# Altium schematic symbol library stm32f103c8t6_module.SCHLIB: 1 symbol
Pins are listed as number, name and electrical type; pins without a type are passive.

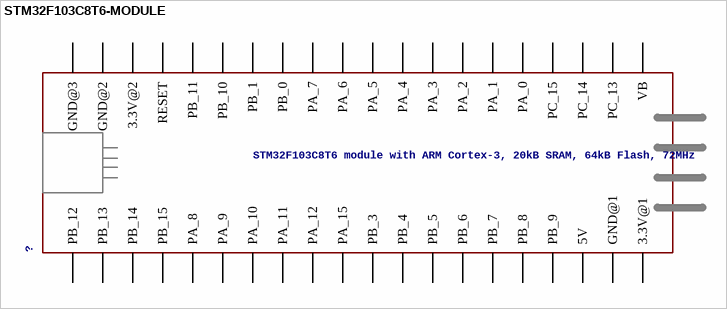
[diagram p0: symbol STM32F103C8T6-MODULE]

## STM32F103C8T6-MODULE
designator ?, comment STM32F103C8T6 module with ARM Cortex-3, 20kB SRAM, 64kB Flash, 72MHz
GateName_1: G$1; SymbolName_1: STM32F103C8T6-MODULE; LibraryName: stm32f103c8t6_module; DeviceSetName: STM32F103C8T6-MODULE; Package: STM32F103C8T6-MODULE
footprint STM32F103C8T6-MODULE
pins: 3.3V_1 3.3V@1, 3.3V_2 3.3V@2, 5V, GND_1 GND@1, GND_2 GND@2, GND_3 GND@3 (power), PA_0, PA_1, PA_2, PA_3, PA_4, PA_5, PA_6, PA_7, PA_8, PA_9, PA_10, PA_11, PA_12, PA_15, PB_0, PB_1, PB_3, PB_4, PB_5, PB_6, PB_7, PB_8, PB_9, PB_10, PB_11, PB_12, PB_13, PB_14, PB_15, PC_13, PC_14, PC_15, RESET, VB